# Altium footprint library PCB - LED - LED 0603_1608 BLUE.PCBLIB: 1 footprints
Each footprint in its own frame and in the unit in brackets; x right, y up, seen from the top. Pads: shape width x height; smd on the part's side, far side on the other; paste and mask are expansions set on the pad; w line width, h text height; cw(c..) or ccw(c..) is an arc to the next point about the centre after c.
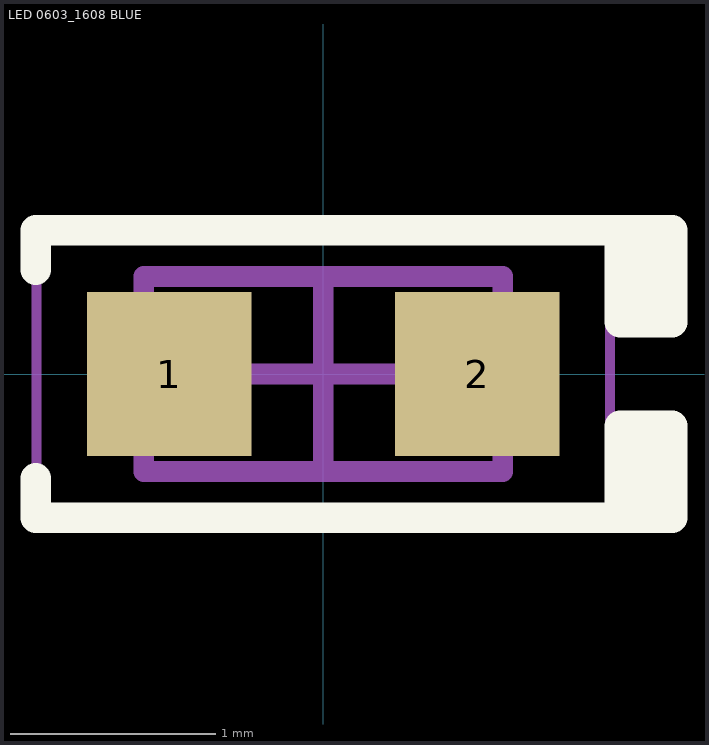
[diagram p0: the footprint, top view; thin cyan lines are the x and y axes]

## LED 0603_1608 BLUE [mm] "Chip Diode, 2-Leads, Body 1.60x0.80mm, IPC Medium Density"
height 0.45
pads (2):
  rect 0.8x0.8 smd: 1(-0.75,0) 2(0.75,0)
Top Overlay:
  lines w0.15: -1.4,-0.508 -1.4,-0.7 1.549,-0.7 ; -1.4,0.508 -1.4,0.7 1.549,0.7 ; 1.573,-0.7 1.446,-0.7 1.446,-0.254 1.573,-0.254 ; 1.573,-0.7 1.573,-0.254 ; 1.573,-0.7 1.7,-0.7 1.7,-0.254 1.573,-0.254 ; 1.573,0.254 1.573,0.7 ; 1.573,0.254 1.446,0.254 1.446,0.7 1.573,0.7 ; 1.573,0.254 1.7,0.254 1.7,0.7 1.573,0.7
Mechanical 13:
  lines w0.1: -0.875,-0.475 0.875,-0.475 0.875,0.475 -0.875,0.475 -0.875,-0.475
Mechanical 15:
  lines w0.05: -1.397,-0.75 1.397,-0.75 1.397,0.75 -1.397,0.75 -1.397,-0.75
  lines w0.1: -0.475,0 0.475,0 ; 0,-0.475 0,0.475
3D body "LED 0603 Base BLUE.STEP": height 0.28, standoff 0, extent -0.8,-0.4 0.8,0.4
3D body "LED 0603 Lens BLUE.STEP": height 0.53, standoff 0.18, extent -0.55,-0.4 0.55,0.4